# Altium footprint library on-semi-packages.PcbLib: 19 footprints (part 1 of 2)
Each footprint in its own frame and in the unit in brackets; x right, y up, seen from the top. Pads: shape width x height; smd on the part's side, far side on the other; paste and mask are expansions set on the pad; w line width, h text height; cw(c..) or ccw(c..) is an arc to the next point about the centre after c.
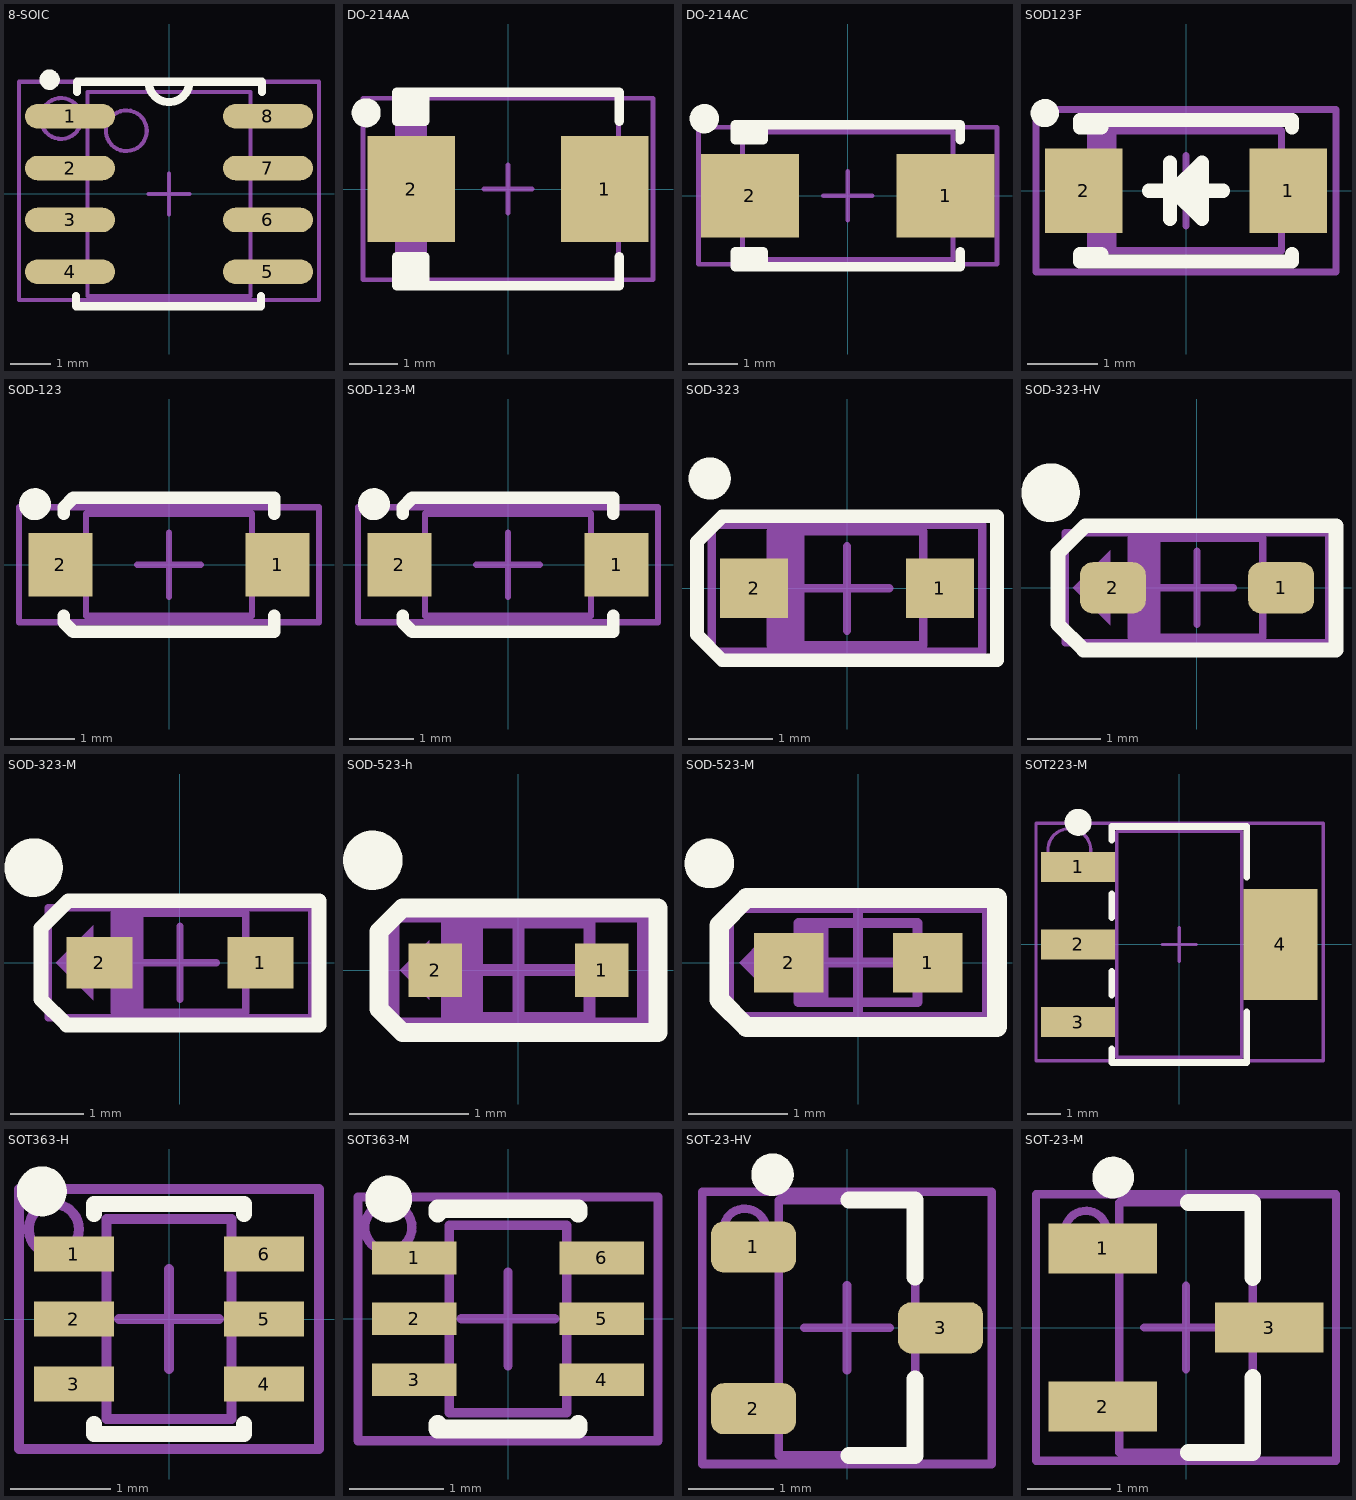
[diagram p0: the footprints below, top view; thin cyan lines are the x and y axes]

## 8-SOIC [mm] "Plastic Small Outline 8"
height 1.7
pads (8):
  oval 2.2x0.6 smd: 1(-2.425,1.905) 2(-2.425,0.635) 3(-2.425,-0.635) 4(-2.425,-1.905) 5(2.425,-1.905) 6(2.425,-0.635) 7(2.425,0.635) 8(2.425,1.905)
Top Overlay:
  circle w0.25: c-2.925,2.8 r0.125
  lines w0.2: -2.275,-2.5 -2.275,-2.75 2.25,-2.75 2.25,-2.5 ; -2.25,2.5 -2.25,2.75 2.275,2.75 2.275,2.5 ; -0.5,2.75 ccw(c0,2.75) 0.5,2.75
Mechanical 13:
  circle w0.1: c-1.045,1.55 r0.5
  lines w0.1: -0.5,0 0.5,0 ; 0,-0.5 0,0.5 ; -2,-2.5 2,-2.5 2,2.5 -2,2.5 -2,-2.5
Mechanical 15:
  circle w0.1: c-2.645,1.85 r0.5
  lines w0.1: -3.675,-2.6 3.675,-2.6 3.675,2.75 -3.675,2.75 -3.675,-2.6
  text ".Designator" at -0.1,2.375 h0.5
3D body "User Library-SOIC08-150.step": height 1.75, standoff 0, extent -2.9,-2.4 2.9,2.4

## DO-214AA [mm] "Molded Diode, 2-Leads, Body 4.3x3.6mm, IPC High Density"
height 2.4
pads (2):
  rect 1.8x2.2 smd: 1(2,0) 2(-2,0)
Top Overlay:
  circle w0.3: c-2.93,1.575 r0.15
  rectangle: -2.3,-2 -1.735,-1.4
  rectangle: -2.3,1.4 -1.735,2
  lines w0.2: -1.725,-2 -1.725,-1.4 -2.3,-1.4 -2.3,-2 2.3,-2 2.3,-1.405 ; -1.725,2 -1.725,1.4 -2.3,1.4 -2.3,2 2.3,2 2.3,1.405
Mechanical 13:
  rectangle: -2.285,-1.97 -1.67,1.97
  lines w0.1: -0.5,0 0.5,0 ; 0,-0.5 0,0.5 ; -2.285,-1.97 -2.285,1.97 2.285,1.97 2.285,-1.97 -2.285,-1.97
Mechanical 15:
  region: -2.1,-0.7 -2.8,0 -2.1,0.7
  lines w0.1: -3,-1.875 -3,1.875 3,1.875 3,-1.875 -3,-1.875
  text ".Designator" at -0.875,-0.175 h0.5
3D body "SW3dPS-DO-214AA SMB.step": height 2.3, standoff 0, extent -2.7,-1.8 2.7,1.8

## DO-214AC [mm] "Molded Diode, 2-Leads, Body 4.3x2.6mm, IPC High Density"
height 2.15
pads (2):
  rect 2x1.7 smd: 1(2,0) 2(-2,0)
Top Overlay:
  circle w0.3: c-2.93,1.575 r0.15
  rectangle: -2.3,-1.45 -1.71,-1.125
  rectangle: -2.3,1.125 -1.725,1.45
  lines w0.2: -1.725,-1.45 -1.725,-1.15 -2.3,-1.15 -2.3,-1.45 2.3,-1.45 2.3,-1.15 ; -1.725,1.45 -1.725,1.15 -2.3,1.15 -2.3,1.45 2.3,1.45 2.3,1.15
Mechanical 13:
  lines w0.1: -0.5,0 0.5,0 ; 0,-0.5 0,0.5 ; -2.15,-1.3 -2.15,1.3 2.15,1.3 2.15,-1.3 -2.15,-1.3
Mechanical 15:
  region: -2.3,-0.6 -2.9,0 -2.3,0.6
  lines w0.1: -3.05,-1.4 -3.05,1.4 3.05,1.4 3.05,-1.4 -3.05,-1.4
  text ".Designator" at -0.875,-0.175 h0.5
3D body "DO-214AC.step": height 2.3, standoff -0.1, extent -2.6,-1.3 2.6,1.3

## SOD123F [mm] "Molded Diode, 2-Leads, Body 2.6x1.6mm, IPC Medium Density"
height 1.2
pads (2):
  rect 1.1x1.2 smd: 1(1.45,0) 2(-1.45,0)
Top Overlay:
  circle w0.2: c-2,1.1 r0.1
  lines w0.2: -1.2,-1 -1.2,-0.9 -1.5,-0.9 -1.5,-1 1.5,-1 1.5,-0.9 ; -1.2,1 -1.2,0.9 -1.5,0.9 -1.5,1 1.5,1 1.5,0.9 ; -0.525,0 -0.225,0 ; -0.225,-0.4 -0.225,0.4 ; 0.025,-0.15 0.025,0.15 ; 0.225,0 0.525,0 ; -0.175,0 0.225,0.4 0.225,-0.4 -0.175,0
Mechanical 13:
  rectangle: -1.35,-0.85 -0.987,0.85
  lines w0.1: -0.5,0 0.5,0 ; 0,-0.5 0,0.5 ; -1.35,-0.85 -1.35,0.85 1.35,0.85 1.35,-0.85 -1.35,-0.85
Mechanical 15:
  region: -1.5,-0.5 -2,0 -1.5,0.5
  lines w0.1: -2.125,-1.15 -2.125,1.15 2.125,1.15 2.125,-1.15 -2.125,-1.15
  text ".Designator" at -1.3,-0.3 h0.8
3D body "User Library-SOD123F.step": height 1.2, standoff -0.01, extent -1.9,-0.85 1.85,0.85

## SOD-123 [mm] "Molded Diode, 2-Leads"
height 1.2
pads (2):
  rect 1x1 smd: 1(1.7,0) 2(-1.7,0)
Top Overlay:
  circle w0.25: c-2.1,0.95 r0.125
  lines w0.2: -1.65,-0.8 -1.65,-0.9 -1.5,-1.05 1.65,-1.05 1.65,-0.8 ; -1.65,0.8 -1.65,0.9 -1.5,1.05 1.65,1.05 1.65,0.8
Mechanical 13:
  lines w0.1: -0.5,0 0.5,0 ; 0,-0.5 0,0.5 ; -1.3,-0.8 1.3,-0.8 1.3,0.8 -1.3,0.8 -1.3,-0.8
Mechanical 15:
  region: -1.575,-0.45 -2.025,0 -1.575,0.45
  lines w0.1: -2.35,-0.9 2.35,-0.9 2.35,0.9 -2.35,0.9 -2.35,-0.9
  text ".Designator" at -0.875,-0.175 h0.8
3D body "User Library-SOD-123_DiodesInc.step": height 1.44, standoff -0.01, extent -1.925,-0.85 1.925,0.85

## SOD-123-M [mm] "Molded Diode, 2-Leads"
height 1.2
pads (2):
  rect 1x1 smd: 1(1.7,0) 2(-1.7,0)
Top Overlay:
  circle w0.25: c-2.1,0.95 r0.125
  lines w0.2: -1.65,-0.8 -1.65,-0.9 -1.5,-1.05 1.65,-1.05 1.65,-0.8 ; -1.65,0.8 -1.65,0.9 -1.5,1.05 1.65,1.05 1.65,0.8
Mechanical 13:
  lines w0.1: -0.5,0 0.5,0 ; 0,-0.5 0,0.5 ; -1.3,-0.8 1.3,-0.8 1.3,0.8 -1.3,0.8 -1.3,-0.8
Mechanical 15:
  region: -1.575,-0.45 -2.025,0 -1.575,0.45
  lines w0.1: -2.35,-0.9 2.35,-0.9 2.35,0.9 -2.35,0.9 -2.35,-0.9
  text ".Designator" at -0.875,-0.175 h0.8
3D body "User Library-SOD-123_DiodesInc.step": height 1.44, standoff -0.01, extent -1.925,-0.85 1.925,0.85

## SOD-323 [mm] "Molded Diode, 2-Leads"
height 0.7
pads (2):
  rect 0.8x0.7 smd: 1(1.1,0) 2(-1.1,0)
Top Overlay:
  circle w0.25: c-1.625,1.3 r0.125
  lines w0.16: -1.775,-0.55 -1.475,-0.85 1.775,-0.85 1.775,0.85 -1.475,0.85 -1.775,0.55 -1.775,-0.55
Mechanical 13:
  rectangle: -0.9,-0.675 -0.5,0.65
  lines w0.1: -0.5,0 0.5,0 ; 0,-0.5 0,0.5 ; -0.9,-0.675 0.9,-0.675 0.9,0.675 -0.9,0.675 -0.9,-0.675
Mechanical 15:
  region: -1.125,-0.325 -1.45,0 -1.125,0.325
  lines w0.1: -1.6,-0.75 1.6,-0.75 1.6,0.75 -1.6,0.75 -1.6,-0.75
  text ".Designator" at -0.875,-0.175 h0.5
3D body "User Library-SOD-323.step": height 1.1, standoff 0, extent -1.3,-0.675 1.3,0.675

## SOD-323-HV [mm] "Molded Diode, 2-Leads, Medium Density"
height 0.7
pads (2):
  rrect50% 0.9x0.7 smd: 1(1.15,0) 2(-1.15,0)
Top Overlay:
  circle w0.4: c-2,1.3 r0.2
  lines w0.2: -1.9,-0.5 -1.55,-0.85 1.9,-0.85 1.9,0.85 -1.525,0.85 -1.9,0.475 -1.9,-0.5
Mechanical 13:
  rectangle: -0.9,-0.675 -0.5,0.65
  lines w0.1: -0.5,0 0.5,0 ; 0,-0.5 0,0.5 ; -0.9,-0.675 0.9,-0.675 0.9,0.675 -0.9,0.675 -0.9,-0.675
Mechanical 15:
  region: -1.188,-0.512 -1.7,0 -1.187,0.513
  lines w0.1: -1.8,-0.75 1.8,-0.75 1.8,0.75 -1.8,0.75 -1.8,-0.75
  text ".Designator" at -1,-1.3 h0.9
3D body "User Library-SOD-323.step": height 1.1, standoff 0, extent -1.3,-0.675 1.3,0.675

## SOD-323-M [mm] "Molded Diode, 2-Leads, Medium Density"
height 0.7
pads (2):
  rect 0.9x0.7 smd: 1(1.1,0) 2(-1.1,0)
Top Overlay:
  circle w0.4: c-2,1.3 r0.2
  lines w0.2: -1.9,-0.5 -1.9,0.475 -1.525,0.85 1.9,0.85 1.9,-0.85 -1.55,-0.85 -1.9,-0.5
Mechanical 13:
  rectangle: -0.9,-0.675 -0.5,0.65
  lines w0.1: -0.5,0 0.5,0 ; 0,-0.5 0,0.5 ; -0.9,-0.675 -0.9,0.675 0.9,0.675 0.9,-0.675 -0.9,-0.675
Mechanical 15:
  region: -1.188,-0.512 -1.7,0 -1.187,0.513
  lines w0.1: -1.8,-0.75 -1.8,0.75 1.8,0.75 1.8,-0.75 -1.8,-0.75
  text ".Designator" at -1,-0.5 h0.9
3D body "User Library-SOD-323.step": height 1.1, standoff 0, extent -1.3,-0.675 1.3,0.675

## SOD-523-h [mm] "Molded Diode, 2-Leads - High Density"
height 0.7
pads (2):
  rect 0.45x0.45 smd: 1(0.7,0) 2(-0.7,0)
Top Overlay:
  circle w0.25: c-1.225,0.925 r0.125
  lines w0.16: -1.175,-0.325 -1.175,0.325 -0.975,0.525 1.175,0.525 1.175,-0.525 -0.975,-0.525 -1.175,-0.325
Mechanical 13:
  rectangle: -0.6,-0.4 -0.3,0.4
  lines w0.1: -0.5,0 0.5,0 ; 0,-0.5 0,0.5 ; -0.6,-0.4 0.6,-0.4 0.6,0.4 -0.6,0.4 -0.6,-0.4
Mechanical 15:
  region: -0.75,-0.25 -1,0 -0.75,0.25
  lines w0.1: -1.05,-0.45 1.05,-0.45 1.05,0.45 -1.05,0.45 -1.05,-0.45
  text ".Designator" at -0.875,-0.175 h0.5
3D body "User Library-SOD-523F.step": height 0.7, standoff 0, extent -0.8,-0.399 0.8,0.399

## SOD-523-M [mm] "Molded Diode, 2-Leads - Medium Density"
height 0.7
pads (2):
  rect 0.7x0.6 smd: 1(0.7,0) 2(-0.7,0)
Top Overlay:
  circle w0.25: c-1.5,1 r0.125
  lines w0.2: -1.4,-0.375 -1.4,0.375 -1.125,0.65 1.4,0.65 1.4,-0.65 -1.125,-0.65 -1.4,-0.375
Mechanical 13:
  rectangle: -0.6,-0.4 -0.3,0.4
  lines w0.1: -0.5,0 0.5,0 ; 0,-0.5 0,0.5 ; -0.6,-0.4 0.6,-0.4 0.6,0.4 -0.6,0.4 -0.6,-0.4
Mechanical 15:
  region: -0.95,-0.25 -1.2,0 -0.95,0.25
  lines w0.1: -1.3,-0.55 1.3,-0.55 1.3,0.55 -1.3,0.55 -1.3,-0.55
  text ".Designator" at -0.8,-0.2 h0.5
3D body "User Library-SOD-523F.step": height 0.7, standoff 0, extent -0.8,-0.399 0.8,0.399

## SOT223-M [mm] "SOT223, 4-Leads, Body 6.7x7.3mm (max), Pitch 2.30mm, IPC Medium Density"
height 1.8
pads (4):
  rect 2.2x0.9 smd: 1(-3,2.3) 2(-3,0) 3(-3,-2.3)
  rect 2.2x3.3 smd: 4(3,0)
Top Overlay:
  circle w0.4: c-3,3.625 r0.2
  lines w0.2: -2,-3.1 -2,-3.5 2,-3.5 2,-2 ; -2,-1.5 -2,-0.8 ; -2,0.8 -2,1.5 ; -2,3.1 -2,3.5 2,3.5 2,2
Mechanical 13:
  lines w0.1: -0.5,0 0.5,0 ; 0,-0.5 0,0.5 ; -1.85,-3.35 -1.85,3.35 1.85,3.35 1.85,-3.35 -1.85,-3.35
Mechanical 15:
  circle w0.1: c-3.261,2.8 r0.636
  lines w0.1: -4.25,-3.45 -4.25,3.6 4.275,3.6 4.275,-3.45 -4.25,-3.45
  text ".Designator" at -0.1,2.6 h0.5
3D body "SW3DPS-SOT-223-DEFAULT.step": height 1.66, standoff -0.02, extent -3.48,-3.25 3.48,3.25

## SOT363-H [mm] "6-Lead Plastic surface-mounted package, 0.65mm pitch, SOT363/SC-88"
height 1.1
pads (6):
  rect 0.8x0.35 smd: 1(-0.95,0.65) 2(-0.95,0) 3(-0.95,-0.65) 4(0.95,-0.65) 5(0.95,0) 6(0.95,0.65)
Top Overlay:
  circle w0.25: c-1.272,1.278 r0.125
  lines w0.16: -0.75,-1.05 -0.75,-1.15 0.75,-1.15 0.75,-1.05 ; -0.75,1.05 -0.75,1.15 0.75,1.15 0.75,1.05
Mechanical 13:
  lines w0.1: -0.5,0 0.5,0 ; 0,-0.5 0,0.5 ; -0.625,-1 -0.625,1 0.625,1 0.625,-1 -0.625,-1
Mechanical 15:
  circle w0.1: c-1.151,0.9 r0.251
  lines w0.1: -1.5,-1.3 -1.5,1.3 1.5,1.3 1.5,-1.3 -1.5,-1.3
  text ".Designator" at -0.2,1.125 h0.5
3D body "User Library-SW3dPS-SOT363.step": height 1.01, standoff 0.02, extent -1.05,-1 1.05,1

## SOT363-M [mm] "6-Lead Plastic surface-mounted package, 0.65mm pitch, SOT363/SC-88"
height 1.1
pads (6):
  rect 0.9x0.35 smd: 1(-1,0.65) 2(-1,0) 3(-1,-0.65) 4(1,-0.65) 5(1,0) 6(1,0.65)
Top Overlay:
  circle w0.25: c-1.272,1.278 r0.125
  lines w0.2: -0.75,-1.125 -0.75,-1.175 0.75,-1.175 0.75,-1.125 ; -0.75,1.125 -0.75,1.175 0.75,1.175 0.75,1.125
Mechanical 13:
  lines w0.1: -0.5,0 0.5,0 ; 0,-0.5 0,0.5 ; -0.625,-1 0.625,-1 0.625,1 -0.625,1 -0.625,-1
Mechanical 15:
  circle w0.1: c-1.276,0.975 r0.251
  lines w0.1: -1.6,-1.3 1.6,-1.3 1.6,1.3 -1.6,1.3 -1.6,-1.3
  text ".Designator" at -0.2,1.125 h0.5
3D body "User Library-SW3dPS-SOT363.step": height 1.01, standoff 0.02, extent -1.05,-1 1.05,1

## SOT-23-HV [mm] "SOT23, 3-Leads, Body 3.0x2.8mm (max), Pitch 0.95mm, IPC High Density"
height 1.4
pads (3):
  rrect50% 1x0.6 smd: 1(-1.1,0.95) 2(-1.1,-0.95) 3(1.1,0)
Top Overlay:
  circle w0.25: c-0.875,1.8 r0.125
  lines w0.2: 0.025,-1.5 0.8,-1.5 0.8,-0.6 ; 0.025,1.5 0.8,1.5 0.8,0.6
Mechanical 13:
  lines w0.1: -0.5,0 0.5,0 ; 0,-0.5 0,0.5 ; -0.8,-1.5 -0.8,1.5 0.8,1.5 0.8,-1.5 -0.8,-1.5
Mechanical 15:
  circle w0.1: c-1.201,1.15 r0.251
  lines w0.1: -1.7,-1.6 -1.7,1.6 1.7,1.6 1.7,-1.6 -1.7,-1.6
  text ".Designator" at -0.2,1.325 h0.5
3D body "User Library-sot23-1.step": height 1.02, standoff 0.02, extent -1.17,-1.46 1.17,1.46

## SOT-23-M [mm] "SOT23, 3-Leads, Body 3.0x2.8mm (max), Pitch 0.95mm, Medium Density"
height 1.4
pads (3):
  rect 1.3x0.6 smd: 1(-1,0.95) 2(-1,-0.95) 3(1,0)
Top Overlay:
  circle w0.25: c-0.875,1.8 r0.125
  lines w0.2: 0.025,-1.5 0.8,-1.5 0.8,-0.6 ; 0.025,1.5 0.8,1.5 0.8,0.6
Mechanical 13:
  lines w0.1: -0.5,0 0.5,0 ; 0,-0.5 0,0.5 ; -0.8,-1.5 0.8,-1.5 0.8,1.5 -0.8,1.5 -0.8,-1.5
Mechanical 15:
  circle w0.1: c-1.201,1.15 r0.251
  lines w0.1: -1.8,-1.6 1.8,-1.6 1.8,1.6 -1.8,1.6 -1.8,-1.6
  text ".Designator" at -0.2,1.325 h0.5
3D body "User Library-sot23-1.step": height 1.02, standoff 0.02, extent -1.17,-1.46 1.17,1.46